# Altium footprint library QFN_DFN_package.PcbLib: 18 footprints (part 1 of 2)
Each footprint in its own frame and in the unit in brackets; x right, y up, seen from the top. Pads: shape width x height; smd on the part's side, far side on the other; paste and mask are expansions set on the pad; w line width, h text height; cw(c..) or ccw(c..) is an arc to the next point about the centre after c.
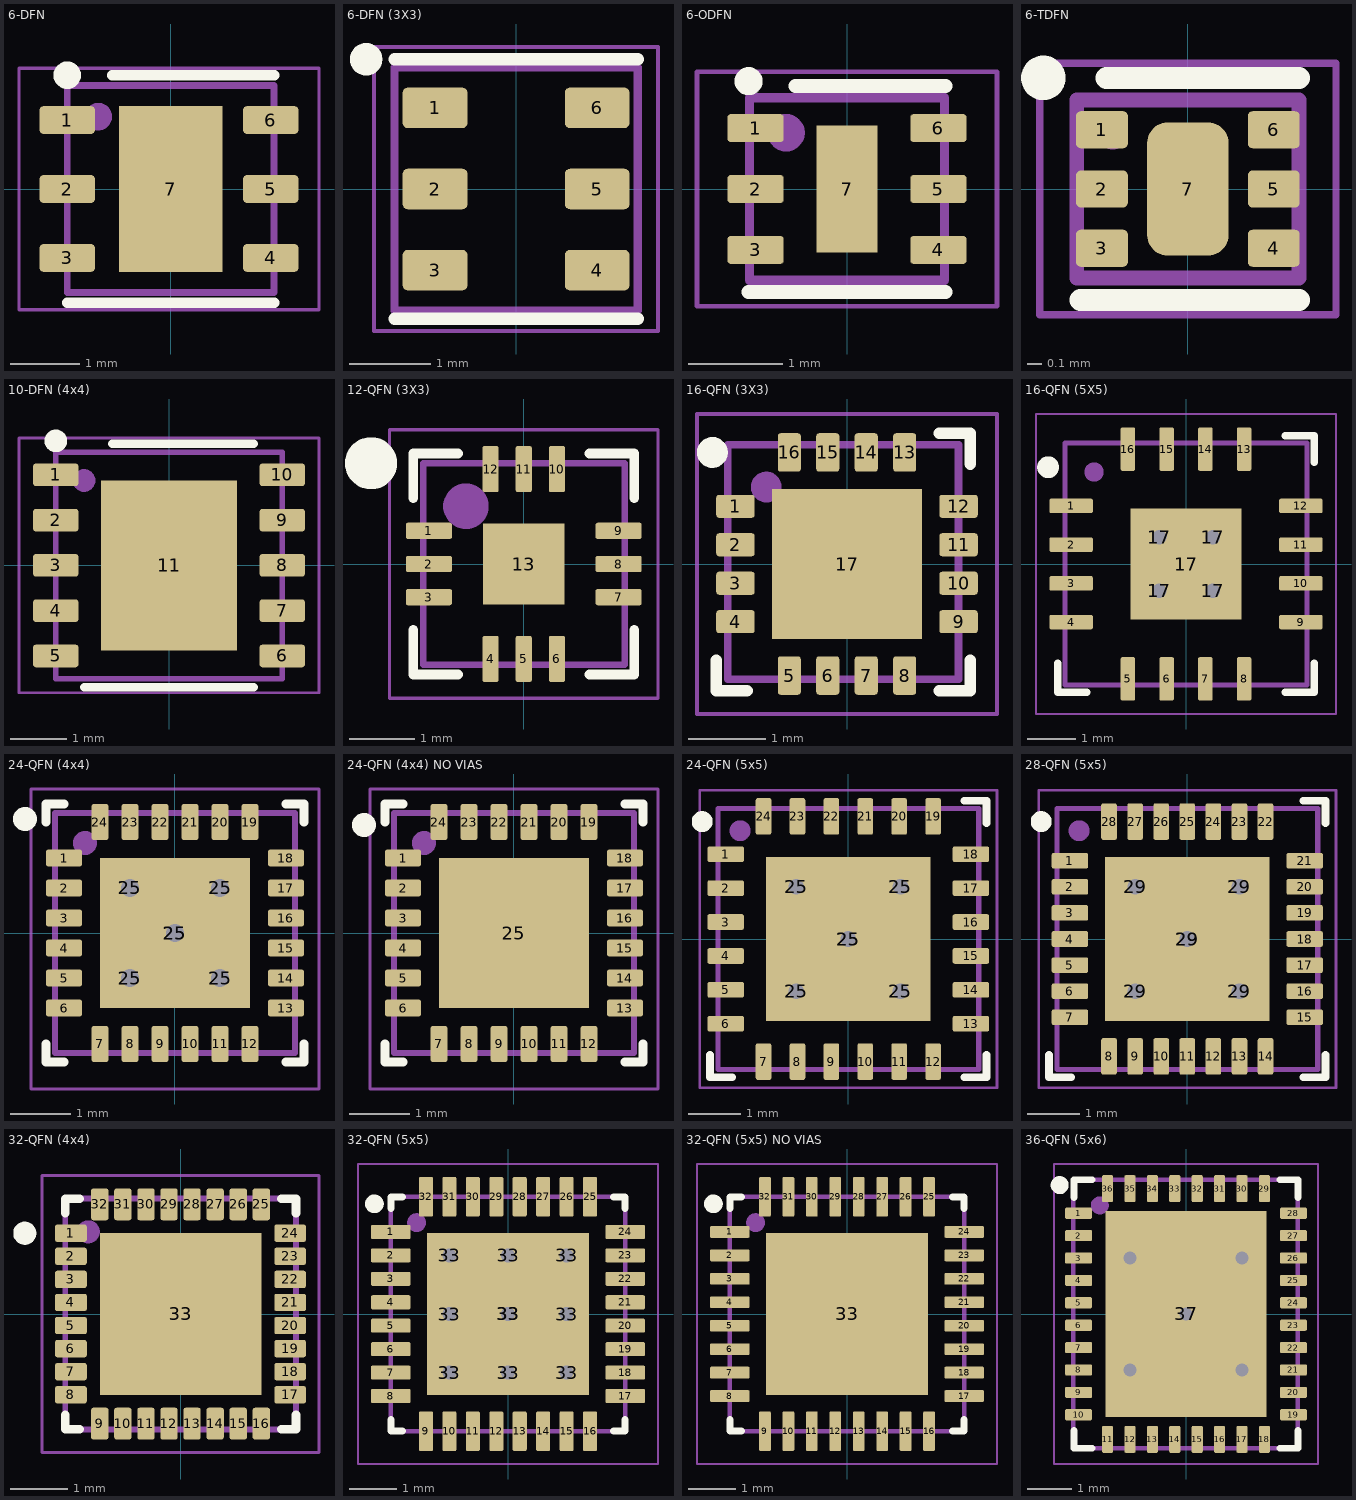
[diagram p0: the footprints below, top view; thin cyan lines are the x and y axes]

## 6-DFN [mm]
pads (7):
  rrect25% 0.8x0.4 smd: 1(-1.5,1) 2(-1.5,0) 3(-1.5,-1) 4(1.45,-1) 5(1.45,0) 6(1.45,1)
  rect 1.5x2.4 smd: 7(0,0)
Top Overlay:
  circle w0.2: c-1.5,1.65 r0.1
  lines w0.15: -1.5,-1.65 1.5,-1.65 ; -0.85,1.65 1.5,1.65
Top Assembly:
  circle w0.2: c-1.05,1.05 r0.1
  lines w0.1: -1.5,-1.5 -1.5,1.5 1.5,1.5 1.5,-1.5 -1.5,-1.5
  text ".Designator" at -4.998,-0.333 h1
Top Courtyard:
  lines w0.05: -2.2,-1.75 -2.2,1.75 2.15,1.75 2.15,-1.75 -2.2,-1.75
3D body "User Library-dfn6_3x3_rm0_95.step": height 0.8, standoff 0, extent -1.55,-1.5 1.55,1.5

## 6-DFN (3X3) [mm] "ASAIR_1mm"
height 2
pads (6):
  rrect25% 0.8x0.5 smd: 1(-1,1) 2(-1,0) 3(-1,-1) 4(1,-1) 5(1,0) 6(1,1)
Top Overlay:
  circle w0.2: c-1.85,1.6 r0.1
  lines w0.15: -1.5,-1.6 1.5,-1.6 ; -1.5,1.6 1.5,1.6
Top Assembly:
  circle w0.2: c-1.05,1 r0.1
  lines w0.1: -1.5,-1.5 -1.5,1.5 1.5,1.5 1.5,-1.5 -1.5,-1.5
  text ".Designator" at -4.998,-0.333 h1
Top Courtyard:
  lines w0.05: -1.75,-1.75 -1.75,1.75 1.75,1.75 1.75,-1.75 -1.75,-1.75
3D body "User Library-dfn6_3x3_rm0_95.step": height 0.8, standoff 0, extent -1.55,-1.5 1.55,1.5

## 6-ODFN [mm]
pads (7):
  rrect25% 0.6x0.3 smd: 1(-0.975,0.65) 2(-0.975,0) 3(-0.975,-0.65) 4(0.975,-0.65) 5(0.975,0) 6(0.975,0.65)
  rect 0.65x1.35 smd: 7(0,0)
Top Overlay:
  circle w0.2: c-1.05,1.15 r0.05
  lines w0.15: -1.05,-1.1 1.05,-1.1 ; -0.55,1.1 1.05,1.1
Top Assembly:
  circle w0.2: c-0.65,0.6 r0.1
  lines w0.1: -1.04,-0.975 1.04,-0.975 1.04,0.975 -1.04,0.975 -1.04,-0.975
  text ".Designator" at -4.998,-0.333 h1
Top Courtyard:
  lines w0.05: -1.6,-1.25 -1.6,1.25 1.6,1.25 1.6,-1.25 -1.6,-1.25
3D body "User Library-DFN-6-1.step": height 0.8, standoff 0, extent -1.05,-1 1.05,1

## 6-TDFN [mm]
pads (7):
  rrect25% 0.35x0.25 smd mask+0.05: 1(-0.58,0.4) 2(-0.58,0) 3(-0.58,-0.4) 4(0.58,-0.4) 5(0.58,0) 6(0.58,0.4)
  rrect50% 0.55x0.9 smd mask+0.05: 7(0,0)
Top Overlay:
  circle w0.2: c-0.975,0.75 r0.05
  lines w0.15: -0.725,-0.75 0.75,-0.75 ; -0.55,0.75 0.75,0.75
Top Assembly:
  circle w0.2: c-0.507,0.369 r0.001
  lines w0.1: -0.75,-0.6 0.75,-0.6 0.75,0.6 -0.75,0.6 -0.75,-0.6
  text ".Designator" at -4.998,-0.333 h1
Top Courtyard:
  lines w0.05: -1,-0.85 -1,0.85 1,0.85 1,-0.85 -1,-0.85
3D body: height 0.75, standoff 0, extent -0.75,-0.6 0.75,0.6

## 10-DFN (4x4) [mm] "DFN 10-Leads, Body 4,00x4,00mm, Pitch 0,80mm"
height 0.8
pads (11):
  rrect25% 0.8x0.4 smd: 1(-2,1.6) 2(-2,0.8) 3(-2,0) 4(-2,-0.8) 5(-2,-1.6) 6(2,-1.6) 7(2,-0.8) 8(2,0) 9(2,0.8) 10(2,1.6)
  rect 2.4x3 smd: 11(0,0)
Top Overlay:
  circle w0.2: c-2,2.2 r0.1
  lines w0.15: -1.5,-2.15 1.5,-2.15 ; -1,2.15 1.5,2.15
Top Assembly:
  circle w0.2: c-1.5,1.5 r0.1
  lines w0.1: -2,-2 -2,2 2,2 2,-2 -2,-2
  text ".Designator" at -4.998,-0.333 h1
Top Courtyard:
  lines w0.05: -2.65,-2.25 -2.65,2.25 2.65,2.25 2.65,-2.25 -2.65,-2.25
3D body "User Library-LGA-16.step": height 0.98, standoff 0, extent -2,-2 2,2

## 12-QFN (3Х3) [mm] "QFN, 12-Leads, Body 3,00x3,00mm, Pitch 0,51mm, Thermal Pad 1,25x1,25mm, IPC Medium Density"
height 0.89
pads (13):
  rrect25% 0.71x0.25 smd: 1(-1.46,0.51) 2(-1.46,0) 3(-1.46,-0.51) 7(1.46,-0.51) 8(1.46,0) 9(1.46,0.51)
  rrect25% 0.25x0.71 smd: 4(-0.51,-1.46) 5(0,-1.46) 6(0.51,-1.46) 10(0.51,1.46) 11(0,1.46) 12(-0.51,1.46)
  rect 1.25x1.25 smd: 13(0,0)
Top Overlay:
  circle w0.4: c-2.35,1.55 r0.2
  lines w0.15: -1.7,-1.01 -1.7,-1.7 -1.01,-1.7 ; -1.7,1.01 -1.7,1.7 -1.01,1.7 ; 1.01,-1.7 1.7,-1.7 1.7,-1.01 ; 1.01,1.7 1.7,1.7 1.7,1.01
Top Assembly:
  circle w0.5: c-0.889,0.889 r0.1
  lines w0.1: -1.55,-1.55 -1.55,1.55 1.55,1.55 1.55,-1.55 -1.55,-1.55
  text ".Designator" at -4.998,-0.333 h1
Top Courtyard:
  lines w0.05: -2.065,-2.065 -2.065,2.065 2.065,2.065 2.065,-2.065 -2.065,-2.065
3D body "MTX2-73+.step": height 0.89, standoff 0, extent -1.551,-1.551 1.551,1.551

## 16-QFN (3X3) [mm] "QFN, 16-Leads, Body 3,00x3,00mm, Pitch 0,5mm, Thermal Pad 1,95x1,95mm"
height 0.8
pads (17):
  rrect25% 0.5x0.3 smd: 1(-1.45,0.75) 2(-1.45,0.25) 3(-1.45,-0.25) 4(-1.45,-0.75) 9(1.45,-0.75) 10(1.45,-0.25) 11(1.45,0.25) 12(1.45,0.75)
  rrect25% 0.3x0.5 smd: 5(-0.75,-1.45) 6(-0.25,-1.45) 7(0.25,-1.45) 8(0.75,-1.45) 13(0.75,1.45) 14(0.25,1.45) 15(-0.25,1.45) 16(-0.75,1.45)
  rect 1.95x1.95 smd: 17(0,0)
Top Overlay:
  circle w0.2: c-1.75,1.45 r0.1
  lines w0.15: -1.7,-1.25 -1.7,-1.65 -1.3,-1.65 ; 1.2,-1.65 1.6,-1.65 1.6,-1.25 ; 1.2,1.7 1.6,1.7 1.6,1.3
Top Assembly:
  circle w0.2: c-1.05,1 r0.1
  lines w0.1: -1.55,-1.5 -1.55,1.55 1.45,1.55 1.45,-1.5 -1.55,-1.5
  text ".Designator" at -4.998,-0.333 h1
Top Courtyard:
  lines w0.05: -1.95,-1.95 1.95,-1.95 1.95,1.95 -1.95,1.95 -1.95,-1.95
3D body "User Library-QFN-16_3x3.STEP": height 0.9, standoff 0, extent -1.549,-1.521 1.493,1.521

## 16-QFN (5X5) [mm] "QFN, 16-Leads, Body 5,00x5,00mm, Pitch 0,80mm, Thermal Pad 2,29x2,29mm, IPC Medium Density"
height 0.8
pads (21):
  rrect25% 0.9x0.3 smd: 1(-2.375,1.2) 2(-2.375,0.4) 3(-2.375,-0.4) 4(-2.375,-1.2) 9(2.375,-1.2) 10(2.375,-0.4) 11(2.375,0.4) 12(2.375,1.2)
  rrect25% 0.3x0.9 smd: 5(-1.2,-2.375) 6(-0.4,-2.375) 7(0.4,-2.375) 8(1.2,-2.375) 13(1.2,2.375) 14(0.4,2.375) 15(-0.4,2.375) 16(-1.2,2.375)
  round 0.7 hole 0.3: 17(-0.55,-0.55) 17(-0.55,0.55) 17(0.55,-0.55) 17(0.55,0.55)
  rect 2.29x2.29 smd: 17(0,0)
Top Overlay:
  circle w0.25: c-2.85,2 r0.1
  lines w0.15: -2.65,-2.05 -2.65,-2.65 -2.05,-2.65 ; 2.05,-2.65 2.65,-2.65 2.65,-2.05 ; 2.05,2.65 2.65,2.65 2.65,2.1
Top Assembly:
  circle w0.2: c-1.9,1.9 r0.1
  lines w0.1: -2.5,-2.5 -2.5,2.5 2.5,2.5 2.5,-2.5 -2.5,-2.5
  text ".Designator" at -4.998,-0.333 h1
Top Courtyard:
  lines w0.05: -3.1,-3.1 -3.1,3.1 3.1,3.1 3.1,-3.1 -3.1,-3.1
3D body "QFN5x5_16pins.step": height 0.75, standoff 0, extent -2.52,-2.52 2.52,2.52

## 24-QFN (4x4) [mm]
height 0.75
pads (30):
  rrect25% 0.6x0.28 smd: 1(-1.85,1.25) 2(-1.85,0.75) 3(-1.85,0.25) 4(-1.85,-0.25) 5(-1.85,-0.75) 6(-1.85,-1.25) 13(1.85,-1.25) 14(1.85,-0.75) 15(1.85,-0.25) 16(1.85,0.25) 17(1.85,0.75) 18(1.85,1.25)
  rrect25% 0.28x0.6 smd: 7(-1.25,-1.85) 8(-0.75,-1.85) 9(-0.25,-1.85) 10(0.25,-1.85) 11(0.75,-1.85) 12(1.25,-1.85) 19(1.25,1.85) 20(0.75,1.85) 21(0.25,1.85) 22(-0.25,1.85) 23(-0.75,1.85) 24(-1.25,1.85)
  round 0.6 hole 0.3: 25(-0.75,-0.75) 25(-0.75,0.75) 25(0,0) 25(0.75,-0.75) 25(0.75,0.75)
  rect 2.5x2.5 smd: 25(0,0)
Top Overlay:
  circle w0.2: c-2.5,1.9 r0.1
  lines w0.15: -2.15,-1.85 -2.15,-2.15 -1.85,-2.15 ; -2.15,1.85 -2.15,2.15 -1.85,2.15 ; 1.85,-2.15 2.15,-2.15 2.15,-1.85 ; 1.85,2.15 2.15,2.15 2.15,1.85
Top Assembly:
  circle w0.2: c-1.5,1.5 r0.1
  lines w0.1: -2,-2 2,-2 2,2 -2,2 -2,-2
  text ".Designator" at -4.998,-0.333 h1
Top Courtyard:
  lines w0.05: -2.4,-2.6 2.4,-2.6 2.4,2.4 -2.4,2.4 -2.4,-2.6
  lines w0.1: -0.5,0 0.5,0 ; 0,-0.5 0,0.5
3D body "24-QFN (4x4 mm).step": height 0.75, standoff 0, extent -2,-2 2,2

## 24-QFN (4x4) NO VIAS [mm]
height 0.75
pads (25):
  rrect25% 0.6x0.28 smd: 1(-1.85,1.25) 2(-1.85,0.75) 3(-1.85,0.25) 4(-1.85,-0.25) 5(-1.85,-0.75) 6(-1.85,-1.25) 13(1.85,-1.25) 14(1.85,-0.75) 15(1.85,-0.25) 16(1.85,0.25) 17(1.85,0.75) 18(1.85,1.25)
  rrect25% 0.28x0.6 smd: 7(-1.25,-1.85) 8(-0.75,-1.85) 9(-0.25,-1.85) 10(0.25,-1.85) 11(0.75,-1.85) 12(1.25,-1.85) 19(1.25,1.85) 20(0.75,1.85) 21(0.25,1.85) 22(-0.25,1.85) 23(-0.75,1.85) 24(-1.25,1.85)
  rect 2.5x2.5 smd: 25(0,0)
Top Overlay:
  circle w0.2: c-2.5,1.8 r0.1
  lines w0.15: -2.15,-1.85 -2.15,-2.15 -1.85,-2.15 ; -2.15,1.85 -2.15,2.15 -1.85,2.15 ; 1.85,-2.15 2.15,-2.15 2.15,-1.85 ; 1.85,2.15 2.15,2.15 2.15,1.85
Top Assembly:
  circle w0.2: c-1.5,1.5 r0.1
  lines w0.1: -2,-2 2,-2 2,2 -2,2 -2,-2
  text ".Designator" at -4.998,-0.333 h1
Top Courtyard:
  lines w0.05: -2.4,-2.6 2.4,-2.6 2.4,2.4 -2.4,2.4 -2.4,-2.6
  lines w0.1: -0.5,0 0.5,0 ; 0,-0.5 0,0.5
3D body "24-QFN (4x4 mm).step": height 0.75, standoff 0, extent -2,-2 2,2

## 24-QFN (5x5) [mm] "PQFN, 28-Leads, Body 5,00x5,00mm, Pitch 0,65mm, Thermal Pad 3,15x3,15mm, IPC Medium Density"
height 0.9
pads (30):
  rrect25% 0.7x0.3 smd: 1(-2.35,1.625) 2(-2.35,0.975) 3(-2.35,0.325) 4(-2.35,-0.325) 5(-2.35,-0.975) 6(-2.35,-1.625) 13(2.35,-1.625) 14(2.35,-0.975) 15(2.35,-0.325) 16(2.35,0.325) 17(2.35,0.975) 18(2.35,1.625)
  rrect25% 0.3x0.7 smd: 7(-1.625,-2.35) 8(-0.975,-2.35) 9(-0.325,-2.35) 10(0.325,-2.35) 11(0.975,-2.35) 12(1.625,-2.35) 19(1.625,2.35) 20(0.975,2.35) 21(0.325,2.35) 22(-0.325,2.35) 23(-0.975,2.35) 24(-1.625,2.35)
  round 0.6 hole 0.3: 25(-1,-1) 25(-1,1) 25(0,0) 25(1,-1) 25(1,1)
  rect 3.15x3.15 smd: 25(0,0)
Top Overlay:
  circle w0.2: c-2.8,2.25 r0.1
  lines w0.15: -2.65,-2.225 -2.65,-2.65 -2.225,-2.65 ; 2.225,-2.65 2.65,-2.65 2.65,-2.225 ; 2.225,2.65 2.65,2.65 2.65,2.225
Top Assembly:
  circle w0.2: c-2.075,2.075 r0.1
  lines w0.1: -2.5,-2.5 -2.5,2.5 2.5,2.5 2.5,-2.5 -2.5,-2.5
  text ".Designator" at -4.998,-0.333 h1
Top Courtyard:
  lines w0.05: -2.85,-2.85 2.85,-2.85 2.85,2.85 -2.85,2.85 -2.85,-2.85
3D body "28-QFN, 0.5 mm.step": height 0.9, standoff 0, extent -2.5,-2.5 2.5,2.5

## 28-QFN (5x5) [mm] "PQFN, 28-Leads, Body 5,00x5,00mm, Pitch 0,50mm, Thermal Pad 3,15x3,15mm, IPC Medium Density"
height 0.9
pads (34):
  rrect25% 0.7x0.3 smd: 1(-2.25,1.5) 2(-2.25,1) 3(-2.25,0.5) 4(-2.25,0) 5(-2.25,-0.5) 6(-2.25,-1) 7(-2.25,-1.5) 15(2.25,-1.5) 16(2.25,-1) 17(2.25,-0.5) 18(2.25,0) 19(2.25,0.5) 20(2.25,1) 21(2.25,1.5)
  rrect25% 0.3x0.7 smd: 8(-1.5,-2.25) 9(-1,-2.25) 10(-0.5,-2.25) 11(0,-2.25) 12(0.5,-2.25) 13(1,-2.25) 14(1.5,-2.25) 22(1.5,2.25) 23(1,2.25) 24(0.5,2.25) 25(0,2.25) 26(-0.5,2.25) 27(-1,2.25) 28(-1.5,2.25)
  round 0.6 hole 0.3: 29(-1,-1) 29(-1,1) 29(0,0) 29(1,-1) 29(1,1)
  rect 3.15x3.15 smd: 29(0,0)
Top Overlay:
  circle w0.2: c-2.8,2.25 r0.1
  lines w0.15: -2.65,-2.225 -2.65,-2.65 -2.225,-2.65 ; 2.225,-2.65 2.65,-2.65 2.65,-2.225 ; 2.225,2.65 2.65,2.65 2.65,2.225
Top Assembly:
  circle w0.2: c-2.075,2.075 r0.1
  lines w0.1: -2.5,-2.5 2.5,-2.5 2.5,2.5 -2.5,2.5 -2.5,-2.5
  text ".Designator" at -4.998,-0.333 h1
Top Courtyard:
  lines w0.05: -2.85,-2.85 -2.85,2.85 2.85,2.85 2.85,-2.85 -2.85,-2.85
3D body "28-QFN, 0.5 mm.step": height 0.9, standoff 0, extent -2.5,-2.5 2.5,2.5

## 32-QFN (4x4) [mm]
height 1
pads (33):
  rrect25% 0.55x0.3 smd paste-0.025 mask+0.07: 1(-1.9,1.4) 2(-1.9,1) 3(-1.9,0.6) 4(-1.9,0.2) 5(-1.9,-0.2) 6(-1.9,-0.6) 7(-1.9,-1) 8(-1.9,-1.4) 17(1.9,-1.4) 18(1.9,-1) 19(1.9,-0.6) 20(1.9,-0.2) 21(1.9,0.2) 22(1.9,0.6) 23(1.9,1) 24(1.9,1.4)
  rrect25% 0.3x0.55 smd paste-0.025 mask+0.07: 9(-1.4,-1.9) 10(-1,-1.9) 11(-0.6,-1.9) 12(-0.2,-1.9) 13(0.2,-1.9) 14(0.6,-1.9) 15(1,-1.9) 16(1.4,-1.9) 25(1.4,1.9) 26(1,1.9) 27(0.6,1.9) 28(0.2,1.9) 29(-0.2,1.9) 30(-0.6,1.9) 31(-1,1.9) 32(-1.4,1.9)
  rect 2.8x2.8 smd paste-1.725 mask+0.07: 33(0,0)
Top Overlay:
  circle w0.2: c-2.7,1.4 r0.1
  lines w0.15: -2,-1.75 -2,-2 -1.75,-2 ; -2,1.75 -2,2 -1.75,2 ; 1.75,-2 2,-2 2,-1.75 ; 1.75,2 2,2 2,1.75
Top Paste:
  region: -0.15,1.6 -1.6,1.6 -1.6,0.15 -0.15,0.15
  rectangle: 0.15,0.15 1.6,1.6
  rectangle: 0.15,-1.6 1.6,-0.15
  region: -0.15,-0.15 -1.6,-0.15 -1.6,-1.6 -0.15,-1.6
Top Assembly:
  circle w0.2: c-1.6,1.425 r0.1
  lines w0.1: -2,-2 2,-2 2,2 -2,2 -2,-2
  text ".Designator" at -4.998,-0.333 h1
Top Courtyard:
  lines w0.05: -2.4,-2.4 -2.4,2.4 2.4,2.4 2.4,-2.4 -2.4,-2.4
3D body "User Library-QFN32_400_400_090_268P040.STEP": height 0.9, standoff 0, extent -2.005,-2.005 2.005,2.005

## 32-QFN (5x5) [mm] "QFN, 32-Leads, Body 5x5mm, Pitch 0.5mm, Thermal Pad 3.45x3.45mm, TI Recommended"
height 1
pads (42):
  rrect25% 0.85x0.3 smd paste-0.025 mask+0.07: 1(-2.5,1.75) 2(-2.5,1.25) 3(-2.5,0.75) 4(-2.5,0.25) 5(-2.5,-0.25) 6(-2.5,-0.75) 7(-2.5,-1.25) 8(-2.5,-1.75) 17(2.5,-1.75) 18(2.5,-1.25) 19(2.5,-0.75) 20(2.5,-0.25) 21(2.5,0.25) 22(2.5,0.75) 23(2.5,1.25) 24(2.5,1.75)
  rrect25% 0.3x0.85 smd paste-0.025 mask+0.07: 9(-1.75,-2.5) 10(-1.25,-2.5) 11(-0.75,-2.5) 12(-0.25,-2.5) 13(0.25,-2.5) 14(0.75,-2.5) 15(1.25,-2.5) 16(1.75,-2.5) 25(1.75,2.5) 26(1.25,2.5) 27(0.75,2.5) 28(0.25,2.5) 29(-0.25,2.5) 30(-0.75,2.5) 31(-1.25,2.5) 32(-1.75,2.5)
  round 0.6 hole 0.3: 33(-1.25,-1.25) 33(-1.25,0) 33(-1.25,1.25) 33(0,-1.25) 33(0,0) 33(0,1.25) 33(1.25,-1.25) 33(1.25,0) 33(1.25,1.25)
  rect 3.45x3.45 smd paste-1.725 mask+0.07: 33(0,0)
Top Overlay:
  circle w0.2: c-2.85,2.35 r0.1
  lines w0.15: -2.5,-2.25 -2.5,-2.5 -2.25,-2.5 ; -2.5,2.25 -2.5,2.5 -2.25,2.5 ; 2.25,-2.5 2.5,-2.5 2.5,-2.25 ; 2.25,2.5 2.5,2.5 2.5,2.25
Top Paste:
  region: -0.15,-0.15 -1.6,-0.15 -1.6,-1.6 -0.15,-1.6
  rectangle: 0.15,-1.6 1.6,-0.15
  rectangle: 0.15,0.15 1.6,1.6
  region: -0.15,1.6 -1.6,1.6 -1.6,0.15 -0.15,0.15
Top Assembly:
  circle w0.2: c-1.95,1.95 r0.1
  lines w0.1: 2.501,2.499 2.5,2.5 ; 2.5,2.5 -2.5,2.5 -2.5,-2.5 2.5,-2.5 2.5,2.5
  text ".Designator" at -4.998,-0.333 h1
Top Courtyard:
  lines w0.05: -3.2,-3.2 3.2,-3.2 3.2,3.2 -3.2,3.2 -3.2,-3.2
3D body "User Library-qfn32-5x5__ _________.STEP": height 0.8, standoff 0, extent -2.52,-2.51 2.5,2.51

## 32-QFN (5x5) NO VIAS [mm] "QFN, 32-Leads, Body 5x5mm, Pitch 0.5mm, Thermal Pad 3.45x3.45mm, TI Recommended"
height 1
pads (33):
  rrect25% 0.85x0.25 smd paste-0.025 mask+0.07: 1(-2.5,1.75) 2(-2.5,1.25) 3(-2.5,0.75) 4(-2.5,0.25) 5(-2.5,-0.25) 6(-2.5,-0.75) 7(-2.5,-1.25) 8(-2.5,-1.75) 17(2.5,-1.75) 18(2.5,-1.25) 19(2.5,-0.75) 20(2.5,-0.25) 21(2.5,0.25) 22(2.5,0.75) 23(2.5,1.25) 24(2.5,1.75)
  rrect25% 0.25x0.85 smd paste-0.025 mask+0.07: 9(-1.75,-2.5) 10(-1.25,-2.5) 11(-0.75,-2.5) 12(-0.25,-2.5) 13(0.25,-2.5) 14(0.75,-2.5) 15(1.25,-2.5) 16(1.75,-2.5) 25(1.75,2.5) 26(1.25,2.5) 27(0.75,2.5) 28(0.25,2.5) 29(-0.25,2.5) 30(-0.75,2.5) 31(-1.25,2.5) 32(-1.75,2.5)
  rect 3.45x3.45 smd paste-1.725 mask+0.07: 33(0,0)
Top Overlay:
  circle w0.2: c-2.85,2.35 r0.1
  lines w0.15: -2.5,-2.25 -2.5,-2.5 -2.25,-2.5 ; -2.5,2.25 -2.5,2.5 -2.25,2.5 ; 2.25,-2.5 2.5,-2.5 2.5,-2.25 ; 2.25,2.5 2.5,2.5 2.5,2.25
Top Paste:
  region: -0.15,1.6 -1.6,1.6 -1.6,0.15 -0.15,0.15
  rectangle: 0.15,0.15 1.6,1.6
  rectangle: 0.15,-1.6 1.6,-0.15
  region: -0.15,-0.15 -1.6,-0.15 -1.6,-1.6 -0.15,-1.6
Top Assembly:
  circle w0.2: c-1.95,1.95 r0.1
  lines w0.1: 2.501,2.499 2.5,2.5 ; 2.5,2.5 2.5,-2.5 -2.5,-2.5 -2.5,2.5 2.5,2.5
  text ".Designator" at -4.998,-0.333 h1
Top Courtyard:
  lines w0.05: -3.2,-3.2 -3.2,3.2 3.2,3.2 3.2,-3.2 -3.2,-3.2
3D body "User Library-qfn32-5x5__ _________.STEP": height 0.8, standoff 0, extent -2.52,-2.51 2.5,2.51

## 36-QFN (5x6) [mm] "QFN, 36-Leads, Body 5x6mm, Pitch 0.5mm, Thermal Pad 3.6x4.6mm"
height 1
pads (37):
  rrect25% 0.6x0.25 smd paste-0.025 mask+0.07: 1(-2.4,2.25) 2(-2.4,1.75) 3(-2.4,1.25) 4(-2.4,0.75) 5(-2.4,0.25) 6(-2.4,-0.25) 7(-2.4,-0.75) 8(-2.4,-1.25) 9(-2.4,-1.75) 10(-2.4,-2.25) 19(2.4,-2.25) 20(2.4,-1.75) 21(2.4,-1.25) 22(2.4,-0.75) 23(2.4,-0.25) 24(2.4,0.25) 25(2.4,0.75) 26(2.4,1.25) 27(2.4,1.75) 28(2.4,2.25)
  rrect25% 0.25x0.6 smd paste-0.025 mask+0.07: 11(-1.75,-2.8) 12(-1.25,-2.8) 13(-0.75,-2.8) 14(-0.25,-2.8) 15(0.25,-2.8) 16(0.75,-2.8) 17(1.25,-2.8) 18(1.75,-2.8) 29(1.75,2.8) 30(1.25,2.8) 31(0.75,2.8) 32(0.25,2.8) 33(-0.25,2.8) 34(-0.75,2.8) 35(-1.25,2.8) 36(-1.75,2.8)
  rect 3.6x4.6 smd paste-1.725 mask+0.07: 37(0,0)
via -1.25,1.25 diameter 0.6 hole 0.3
via 1.25,1.25 diameter 0.6 hole 0.3
via 1.25,-1.25 diameter 0.6 hole 0.3
via -1.25,-1.25 diameter 0.6 hole 0.3
via 0,0 diameter 0.6 hole 0.3
Top Overlay:
  circle w0.2: c-2.821,2.878 r0.1
  lines w0.15: -2.5,-2.6 -2.5,-3 -2.1,-3 ; -2.5,2.6 -2.5,3 -2.1,3 ; 2.1,-3 2.5,-3 2.5,-2.6 ; 2.1,3 2.5,3 2.5,2.6
Top Paste:
  region: -0.15,-0.15 -1.6,-0.15 -1.6,-1.6 -0.15,-1.6
  rectangle: 0.15,-1.6 1.6,-0.15
  rectangle: 0.15,0.15 1.6,1.6
  region: -0.15,1.6 -1.6,1.6 -1.6,0.15 -0.15,0.15
Top Assembly:
  circle w0.2: c-1.925,2.425 r0.1
  lines w0.1: -2.519,-3 -2.519,3 2.501,3 2.501,-3 -2.519,-3
  text ".Designator" at -4.998,-0.333 h1
Top Courtyard:
  lines w0.05: -2.95,-3.35 -2.95,3.35 2.95,3.35 2.95,-3.35 -2.95,-3.35
3D body: height 1, standoff 0, extent -2.519,-3 2.501,3